# Altium footprint library 排针-排母.PcbLib: 177 footprints (part 7 of 12)
Each footprint in its own frame and in the unit in brackets; x right, y up, seen from the top. Pads: shape width x height; smd on the part's side, far side on the other; paste and mask are expansions set on the pad; w line width, h text height; cw(c..) or ccw(c..) is an arc to the next point about the centre after c.
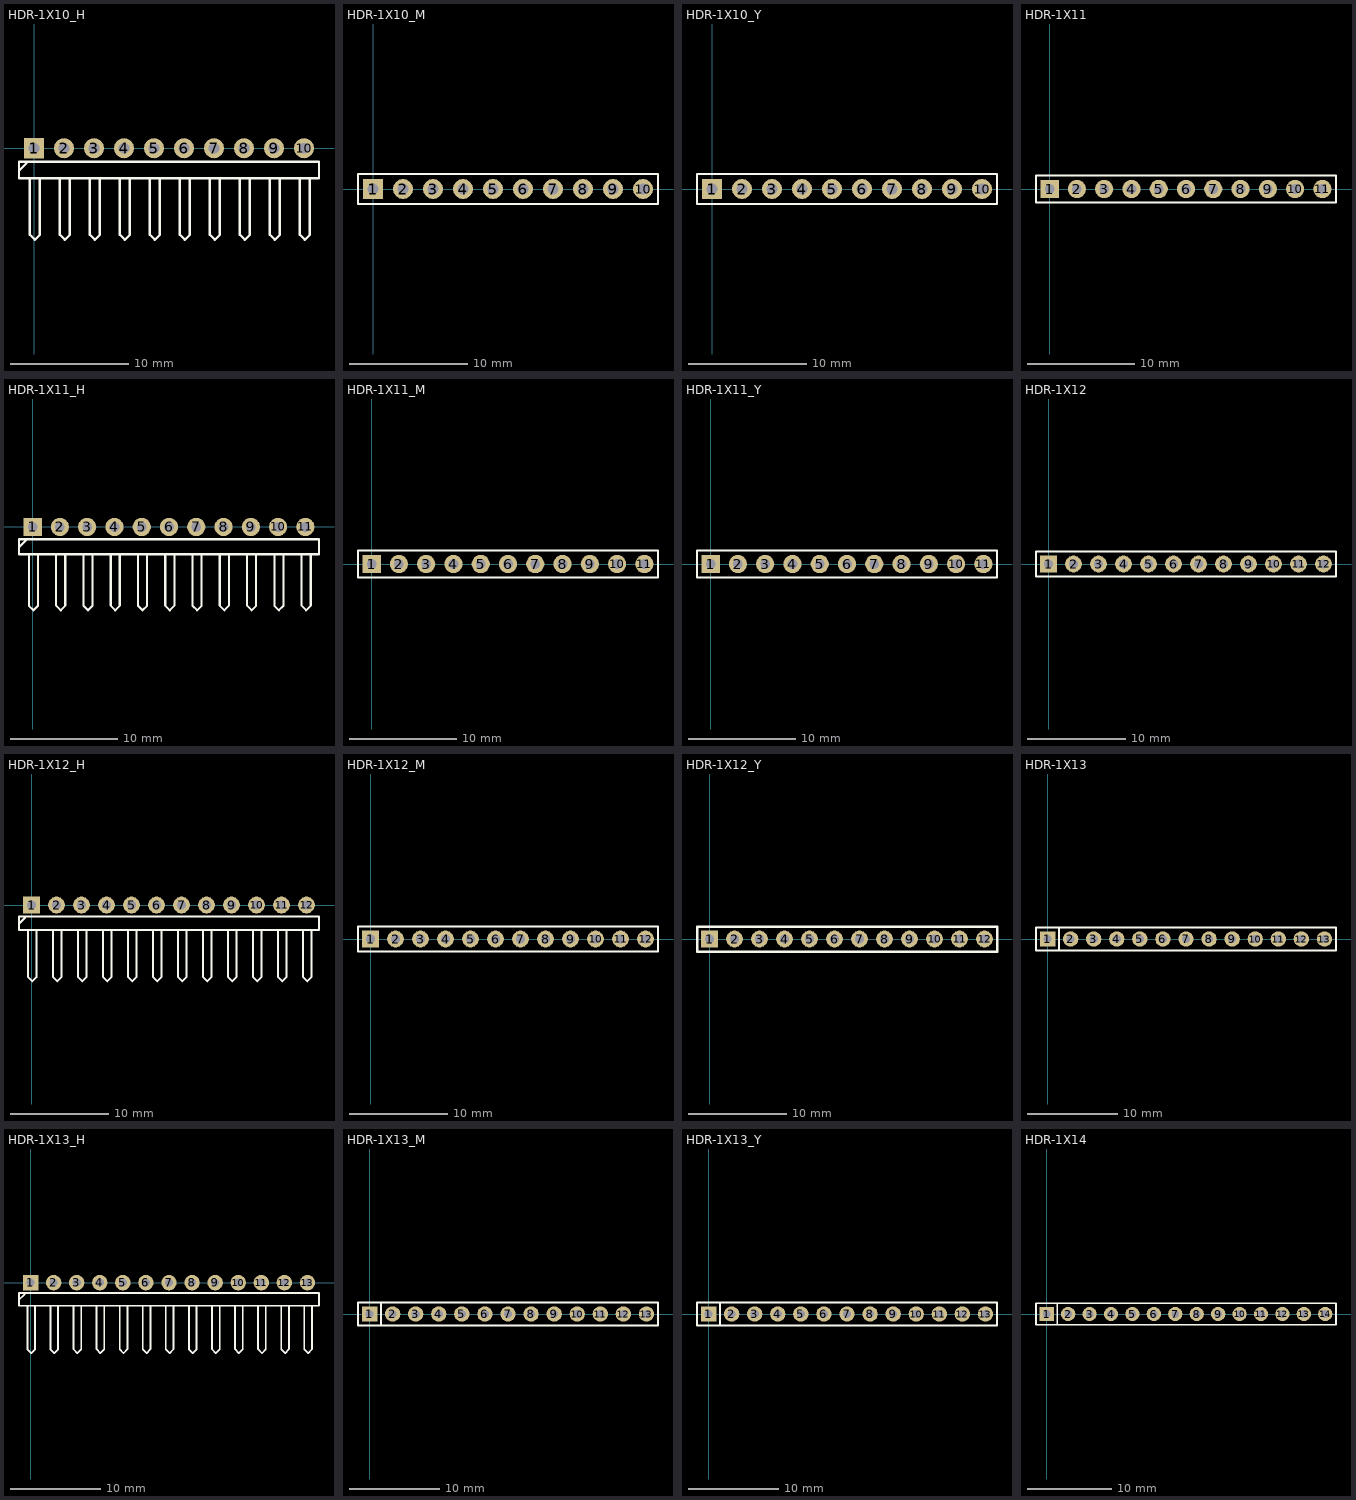
[diagram p6: the footprints below, top view; thin cyan lines are the x and y axes]

## HDR-1X10_H [mm] "弯脚排针，10脚"
pads (10):
  rect 1.7x1.7 hole 0.9: 1(0,0)
  round 1.7 hole 0.9: 2(2.54,0) 3(5.08,0) 4(7.62,0) 5(10.16,0) 6(12.7,0) 7(15.24,0) 8(17.78,0) 9(20.32,0) 10(22.86,0)
Top Overlay:
  lines w0.2: -1.27,-1.905 -0.635,-1.27 ; -0.348,-2.54 -0.348,-7.332 0.075,-7.755 0.499,-7.332 0.508,-7.323 ; 0.499,-7.323 0.499,-2.54 ; 2.192,-2.54 2.192,-7.332 2.615,-7.755 3.039,-7.332 ; 3.039,-7.323 3.039,-2.54 ; 4.732,-2.54 4.732,-7.332 5.155,-7.755 5.579,-7.332 ; 5.579,-7.323 5.579,-2.54 ; 7.272,-2.54 7.272,-7.332 7.695,-7.755 8.119,-7.332 ; 8.119,-7.323 8.119,-2.54 ; 9.812,-2.54 9.812,-7.332 10.235,-7.755 10.659,-7.332 ; 10.659,-7.323 10.659,-2.54 ; 12.352,-2.54 12.352,-7.332 12.775,-7.755 13.199,-7.332 ; 13.199,-7.323 13.199,-2.54 ; 14.892,-2.54 14.892,-7.332 15.315,-7.755 15.739,-7.332 ; 15.739,-7.323 15.739,-2.54 ; 17.432,-2.54 17.432,-7.332 17.855,-7.755 18.279,-7.332 ; 18.279,-7.323 18.279,-2.54 ; 19.972,-2.54 19.972,-7.332 20.395,-7.755 20.819,-7.332 ; 20.819,-7.323 20.819,-2.54 ; 22.512,-2.54 22.512,-7.332 22.935,-7.755 23.359,-7.332 ; 23.359,-7.323 23.359,-2.54 ; -1.27,-2.54 24.13,-2.54 24.13,-1.143 0.508,-1.143 -1.27,-1.143 -1.27,-2.54
3D body: height 4.85, standoff -3, extent 21.59,-7.77 24.13,1.27
3D body: height 4.85, standoff -3, extent 19.05,-7.77 21.59,1.27
3D body: height 4.85, standoff -3, extent 16.51,-7.77 19.05,1.27
3D body: height 4.85, standoff -3, extent 13.97,-7.77 16.51,1.27
3D body: height 4.85, standoff -3, extent 11.43,-7.77 13.97,1.27
3D body: height 4.85, standoff -3, extent 8.89,-7.77 11.43,1.27
3D body: height 4.85, standoff -3, extent 6.35,-7.77 8.89,1.27
3D body: height 4.85, standoff -3, extent 3.81,-7.77 6.35,1.27
3D body: height 4.85, standoff -3, extent 1.27,-7.77 3.81,1.27
3D body: height 4.85, standoff -3, extent -1.27,-7.77 1.27,1.27

## HDR-1X10_M [mm] "排母，10脚"
pads (10):
  rect 1.7x1.7 hole 0.9: 1(0,0)
  round 1.7 hole 0.9: 2(2.54,0) 3(5.08,0) 4(7.62,0) 5(10.16,0) 6(12.7,0) 7(15.24,0) 8(17.78,0) 9(20.32,0) 10(22.86,0)
Top Overlay:
  lines w0.2: -1.27,-1.27 -1.27,1.27 24.13,1.27 24.13,-1.27 -1.27,-1.27
3D body: height 8.5, standoff -3, extent 21.59,-1.27 24.13,1.27
3D body: height 8.5, standoff -3, extent -1.27,-1.27 1.27,1.27
3D body: height 8.5, standoff -3, extent 1.27,-1.27 3.81,1.27
3D body: height 8.5, standoff -3, extent 3.81,-1.27 6.35,1.27
3D body: height 8.5, standoff -3, extent 6.35,-1.27 8.89,1.27
3D body: height 8.5, standoff -3, extent 8.89,-1.27 11.43,1.27
3D body: height 8.5, standoff -3, extent 11.43,-1.27 13.97,1.27
3D body: height 8.5, standoff -3, extent 13.97,-1.27 16.51,1.27
3D body: height 8.5, standoff -3, extent 16.51,-1.27 19.05,1.27
3D body: height 8.5, standoff -3, extent 19.05,-1.27 21.59,1.27

## HDR-1X10_Y [mm] "圆孔排母，10脚"
pads (10):
  rect 1.7x1.7 hole 0.9: 1(0,0)
  round 1.7 hole 0.9: 2(2.54,0) 3(5.08,0) 4(7.62,0) 5(10.16,0) 6(12.7,0) 7(15.24,0) 8(17.78,0) 9(20.32,0) 10(22.86,0)
Top Overlay:
  lines w0.2: -1.27,-1.27 -1.27,1.27 24.13,1.27 24.13,-1.27 -1.27,-1.27
3D body: height 4.31, standoff -3, extent 21.59,-1.27 24.13,1.27
3D body: height 4.31, standoff -3, extent 19.05,-1.27 21.59,1.27
3D body: height 4.31, standoff -3, extent 16.51,-1.27 19.05,1.27
3D body: height 4.31, standoff -3, extent 13.97,-1.27 16.51,1.27
3D body: height 4.31, standoff -3, extent 11.43,-1.27 13.97,1.27
3D body: height 4.31, standoff -3, extent 8.89,-1.27 11.43,1.27
3D body: height 4.31, standoff -3, extent 6.35,-1.27 8.89,1.27
3D body: height 4.31, standoff -3, extent 3.81,-1.27 6.35,1.27
3D body: height 4.31, standoff -3, extent 1.27,-1.27 3.81,1.27
3D body: height 4.31, standoff -3, extent -1.27,-1.27 1.27,1.27

## HDR-1X11 [mm] "排针"
pads (11):
  rect 1.7x1.7 hole 0.9: 1(0,0)
  round 1.7 hole 0.9: 2(2.54,0) 3(5.08,0) 4(7.62,0) 5(10.16,0) 6(12.7,0) 7(15.24,0) 8(17.78,0) 9(20.32,0) 10(22.86,0) 11(25.4,0)
Top Overlay:
  lines w0.2: -1.27,-1.27 -1.27,1.27 26.67,1.27 26.67,-1.27 -1.27,-1.27
3D body: height 8.5, standoff -3, extent 24.13,-1.27 26.67,1.27
3D body: height 8.5, standoff -3, extent 21.59,-1.27 24.13,1.27
3D body: height 8.5, standoff -3, extent 16.51,-1.27 19.05,1.27
3D body: height 8.5, standoff -3, extent 19.05,-1.27 21.59,1.27
3D body: height 8.5, standoff -3, extent 11.43,-1.27 13.97,1.27
3D body: height 8.5, standoff -3, extent 13.97,-1.27 16.51,1.27
3D body: height 8.5, standoff -3, extent 8.89,-1.27 11.43,1.27
3D body: height 8.5, standoff -3, extent 3.81,-1.27 6.35,1.27
3D body: height 8.5, standoff -3, extent 6.35,-1.27 8.89,1.27
3D body: height 8.5, standoff -3, extent -1.27,-1.27 1.27,1.27
3D body: height 8.5, standoff -3, extent 1.27,-1.27 3.81,1.27

## HDR-1X11_H [mm] "弯脚排针，11脚"
pads (11):
  rect 1.7x1.7 hole 0.9: 1(0,0)
  round 1.7 hole 0.9: 2(2.54,0) 3(5.08,0) 4(7.62,0) 5(10.16,0) 6(12.7,0) 7(15.24,0) 8(17.78,0) 9(20.32,0) 10(22.86,0) 11(25.4,0)
Top Overlay:
  lines w0.2: -1.27,-1.905 -0.635,-1.27 ; -0.348,-2.54 -0.348,-7.332 0.075,-7.755 0.499,-7.332 0.508,-7.323 ; 0.499,-7.323 0.499,-2.54 ; 2.192,-2.54 2.192,-7.332 2.615,-7.755 3.039,-7.332 ; 3.039,-7.323 3.039,-2.54 ; 4.732,-2.54 4.732,-7.332 5.155,-7.755 5.579,-7.332 ; 5.579,-7.323 5.579,-2.54 ; 7.272,-2.54 7.272,-7.332 7.695,-7.755 8.119,-7.332 ; 8.119,-7.323 8.119,-2.54 ; 9.812,-2.54 9.812,-7.332 10.235,-7.755 10.659,-7.332 ; 10.659,-7.323 10.659,-2.54 ; 12.352,-2.54 12.352,-7.332 12.775,-7.755 13.199,-7.332 ; 13.199,-7.323 13.199,-2.54 ; 14.892,-2.54 14.892,-7.332 15.315,-7.755 15.739,-7.332 ; 15.739,-7.323 15.739,-2.54 ; 17.432,-2.54 17.432,-7.332 17.855,-7.755 18.279,-7.332 ; 18.279,-7.323 18.279,-2.54 ; 19.972,-2.54 19.972,-7.332 20.395,-7.755 20.819,-7.332 ; 20.819,-7.323 20.819,-2.54 ; 22.512,-2.54 22.512,-7.332 22.935,-7.755 23.359,-7.332 ; 23.359,-7.323 23.359,-2.54 ; 25.052,-2.54 25.052,-7.332 25.475,-7.755 25.899,-7.332 ; 25.899,-7.323 25.899,-2.54 ; -1.27,-2.54 26.67,-2.54 26.67,-1.143 0.508,-1.143 -1.27,-1.143 -1.27,-2.54
3D body: height 4.85, standoff -3, extent 24.13,-7.77 26.67,1.27
3D body: height 4.85, standoff -3, extent 21.59,-7.77 24.13,1.27
3D body: height 4.85, standoff -3, extent 19.05,-7.77 21.59,1.27
3D body: height 4.85, standoff -3, extent 16.51,-7.77 19.05,1.27
3D body: height 4.85, standoff -3, extent 13.97,-7.77 16.51,1.27
3D body: height 4.85, standoff -3, extent 11.43,-7.77 13.97,1.27
3D body: height 4.85, standoff -3, extent 8.89,-7.77 11.43,1.27
3D body: height 4.85, standoff -3, extent 6.35,-7.77 8.89,1.27
3D body: height 4.85, standoff -3, extent 3.81,-7.77 6.35,1.27
3D body: height 4.85, standoff -3, extent 1.27,-7.77 3.81,1.27
3D body: height 4.85, standoff -3, extent -1.27,-7.77 1.27,1.27

## HDR-1X11_M [mm] "排母，11脚"
pads (11):
  rect 1.7x1.7 hole 0.9: 1(0,0)
  round 1.7 hole 0.9: 2(2.54,0) 3(5.08,0) 4(7.62,0) 5(10.16,0) 6(12.7,0) 7(15.24,0) 8(17.78,0) 9(20.32,0) 10(22.86,0) 11(25.4,0)
Top Overlay:
  lines w0.2: -1.27,-1.27 -1.27,1.27 26.67,1.27 26.67,-1.27 -1.27,-1.27
3D body: height 8.5, standoff -3, extent 19.05,-1.27 21.59,1.27
3D body: height 8.5, standoff -3, extent 16.51,-1.27 19.05,1.27
3D body: height 8.5, standoff -3, extent 13.97,-1.27 16.51,1.27
3D body: height 8.5, standoff -3, extent 11.43,-1.27 13.97,1.27
3D body: height 8.5, standoff -3, extent 8.89,-1.27 11.43,1.27
3D body: height 8.5, standoff -3, extent 6.35,-1.27 8.89,1.27
3D body: height 8.5, standoff -3, extent 3.81,-1.27 6.35,1.27
3D body: height 8.5, standoff -3, extent 1.27,-1.27 3.81,1.27
3D body: height 8.5, standoff -3, extent -1.27,-1.27 1.27,1.27
3D body: height 8.5, standoff -3, extent 21.59,-1.27 24.13,1.27
3D body: height 8.5, standoff -3, extent 24.13,-1.27 26.67,1.27

## HDR-1X11_Y [mm] "圆孔排母，11脚"
pads (11):
  rect 1.7x1.7 hole 0.9: 1(0,0)
  round 1.7 hole 0.9: 2(2.54,0) 3(5.08,0) 4(7.62,0) 5(10.16,0) 6(12.7,0) 7(15.24,0) 8(17.78,0) 9(20.32,0) 10(22.86,0) 11(25.4,0)
Top Overlay:
  lines w0.2: -1.27,-1.27 26.67,-1.27 26.67,1.27 -1.27,1.27 -1.27,-1.27
3D body: height 4.31, standoff -3, extent -1.27,-1.27 1.27,1.27
3D body: height 4.31, standoff -3, extent 1.27,-1.27 3.81,1.27
3D body: height 4.31, standoff -3, extent 3.81,-1.27 6.35,1.27
3D body: height 4.31, standoff -3, extent 6.35,-1.27 8.89,1.27
3D body: height 4.31, standoff -3, extent 8.89,-1.27 11.43,1.27
3D body: height 4.31, standoff -3, extent 11.43,-1.27 13.97,1.27
3D body: height 4.31, standoff -3, extent 13.97,-1.27 16.51,1.27
3D body: height 4.31, standoff -3, extent 16.51,-1.27 19.05,1.27
3D body: height 4.31, standoff -3, extent 19.05,-1.27 21.59,1.27
3D body: height 4.31, standoff -3, extent 21.59,-1.27 24.13,1.27
3D body: height 4.31, standoff -3, extent 24.13,-1.27 26.67,1.27

## HDR-1X12 [mm] "排针，13脚"
pads (12):
  rect 1.7x1.7 hole 0.9: 1(0,0)
  round 1.7 hole 0.9: 2(2.54,0) 3(5.08,0) 4(7.62,0) 5(10.16,0) 6(12.7,0) 7(15.24,0) 8(17.78,0) 9(20.32,0) 10(22.86,0) 11(25.4,0) 12(27.94,0)
Top Overlay:
  lines w0.2: -1.27,-1.27 -1.27,1.27 29.21,1.27 29.21,-1.27 -1.27,-1.27
3D body: height 8.5, standoff -3, extent 24.13,-1.27 26.67,1.27
3D body: height 8.5, standoff -3, extent 26.67,-1.27 29.21,1.27
3D body: height 8.5, standoff -3, extent 21.59,-1.27 24.13,1.27
3D body: height 8.5, standoff -3, extent 16.51,-1.27 19.05,1.27
3D body: height 8.5, standoff -3, extent 19.05,-1.27 21.59,1.27
3D body: height 8.5, standoff -3, extent 11.43,-1.27 13.97,1.27
3D body: height 8.5, standoff -3, extent 13.97,-1.27 16.51,1.27
3D body: height 8.5, standoff -3, extent 8.89,-1.27 11.43,1.27
3D body: height 8.5, standoff -3, extent 3.81,-1.27 6.35,1.27
3D body: height 8.5, standoff -3, extent 6.35,-1.27 8.89,1.27
3D body: height 8.5, standoff -3, extent -1.27,-1.27 1.27,1.27
3D body: height 8.5, standoff -3, extent 1.27,-1.27 3.81,1.27

## HDR-1X12_H [mm] "弯脚排针，12脚"
pads (12):
  rect 1.7x1.7 hole 0.9: 1(0,0)
  round 1.7 hole 0.9: 2(2.54,0) 3(5.08,0) 4(7.62,0) 5(10.16,0) 6(12.7,0) 7(15.24,0) 8(17.78,0) 9(20.32,0) 10(22.86,0) 11(25.4,0) 12(27.94,0)
Top Overlay:
  lines w0.2: -1.27,-1.905 -0.635,-1.27 ; -0.348,-2.54 -0.348,-7.332 0.075,-7.755 0.499,-7.332 0.508,-7.323 ; 0.499,-7.323 0.499,-2.54 ; 2.192,-2.54 2.192,-7.332 2.615,-7.755 3.039,-7.332 ; 3.039,-7.323 3.039,-2.54 ; 4.732,-2.54 4.732,-7.332 5.155,-7.755 5.579,-7.332 ; 5.579,-7.323 5.579,-2.54 ; 7.272,-2.54 7.272,-7.332 7.695,-7.755 8.119,-7.332 ; 8.119,-7.323 8.119,-2.54 ; 9.812,-2.54 9.812,-7.332 10.235,-7.755 10.659,-7.332 ; 10.659,-7.323 10.659,-2.54 ; 12.352,-2.54 12.352,-7.332 12.775,-7.755 13.199,-7.332 ; 13.199,-7.323 13.199,-2.54 ; 14.892,-2.54 14.892,-7.332 15.315,-7.755 15.739,-7.332 ; 15.739,-7.323 15.739,-2.54 ; 17.432,-2.54 17.432,-7.332 17.855,-7.755 18.279,-7.332 ; 18.279,-7.323 18.279,-2.54 ; 19.972,-2.54 19.972,-7.332 20.395,-7.755 20.819,-7.332 ; 20.819,-7.323 20.819,-2.54 ; 22.512,-2.54 22.512,-7.332 22.935,-7.755 23.359,-7.332 ; 23.359,-7.323 23.359,-2.54 ; 25.052,-2.54 25.052,-7.332 25.475,-7.755 25.899,-7.332 ; 25.899,-7.323 25.899,-2.54 ; 27.592,-2.54 27.592,-7.332 28.015,-7.755 28.439,-7.332 ; 28.439,-7.323 28.439,-2.54 ; -1.27,-2.54 29.21,-2.54 29.21,-1.143 0.508,-1.143 -1.27,-1.143 -1.27,-2.54
3D body: height 4.85, standoff -3, extent -1.27,-7.77 1.27,1.27
3D body: height 4.85, standoff -3, extent 1.27,-7.77 3.81,1.27
3D body: height 4.85, standoff -3, extent 3.81,-7.77 6.35,1.27
3D body: height 4.85, standoff -3, extent 6.35,-7.77 8.89,1.27
3D body: height 4.85, standoff -3, extent 8.89,-7.77 11.43,1.27
3D body: height 4.85, standoff -3, extent 11.43,-7.77 13.97,1.27
3D body: height 4.85, standoff -3, extent 13.97,-7.77 16.51,1.27
3D body: height 4.85, standoff -3, extent 16.51,-7.77 19.05,1.27
3D body: height 4.85, standoff -3, extent 19.05,-7.77 21.59,1.27
3D body: height 4.85, standoff -3, extent 21.59,-7.77 24.13,1.27
3D body: height 4.85, standoff -3, extent 24.13,-7.77 26.67,1.27
3D body: height 4.85, standoff -3, extent 26.67,-7.77 29.21,1.27

## HDR-1X12_M [mm] "排母，12脚"
pads (12):
  rect 1.7x1.7 hole 0.9: 1(0,0)
  round 1.7 hole 0.9: 2(2.54,0) 3(5.08,0) 4(7.62,0) 5(10.16,0) 6(12.7,0) 7(15.24,0) 8(17.78,0) 9(20.32,0) 10(22.86,0) 11(25.4,0) 12(27.94,0)
Top Overlay:
  lines w0.2: -1.27,-1.27 29.21,-1.27 29.21,1.27 -1.27,1.27 -1.27,-1.27
3D body: height 8.5, standoff -3, extent 19.05,-1.27 21.59,1.27
3D body: height 8.5, standoff -3, extent 16.51,-1.27 19.05,1.27
3D body: height 8.5, standoff -3, extent 13.97,-1.27 16.51,1.27
3D body: height 8.5, standoff -3, extent 11.43,-1.27 13.97,1.27
3D body: height 8.5, standoff -3, extent 8.89,-1.27 11.43,1.27
3D body: height 8.5, standoff -3, extent 6.35,-1.27 8.89,1.27
3D body: height 8.5, standoff -3, extent 3.81,-1.27 6.35,1.27
3D body: height 8.5, standoff -3, extent 1.27,-1.27 3.81,1.27
3D body: height 8.5, standoff -3, extent -1.27,-1.27 1.27,1.27
3D body: height 8.5, standoff -3, extent 21.59,-1.27 24.13,1.27
3D body: height 8.5, standoff -3, extent 24.13,-1.27 26.67,1.27
3D body: height 8.5, standoff -3, extent 26.67,-1.27 29.21,1.27

## HDR-1X12_Y [mm] "圆孔排母，12脚"
pads (12):
  rect 1.7x1.7 hole 0.9: 1(0,0)
  round 1.7 hole 0.9: 2(2.54,0) 3(5.08,0) 4(7.62,0) 5(10.16,0) 6(12.7,0) 7(15.24,0) 8(17.78,0) 9(20.32,0) 10(22.86,0) 11(25.4,0) 12(27.94,0)
Top Overlay:
  lines w0.254: -1.27,-1.27 29.21,-1.27 29.21,1.27 -1.27,1.27 -1.27,-1.27
3D body: height 4.31, standoff -3, extent 26.67,-1.27 29.21,1.27
3D body: height 4.31, standoff -3, extent 24.13,-1.27 26.67,1.27
3D body: height 4.31, standoff -3, extent 21.59,-1.27 24.13,1.27
3D body: height 4.31, standoff -3, extent 19.05,-1.27 21.59,1.27
3D body: height 4.31, standoff -3, extent 16.51,-1.27 19.05,1.27
3D body: height 4.31, standoff -3, extent 13.97,-1.27 16.51,1.27
3D body: height 4.31, standoff -3, extent 11.43,-1.27 13.97,1.27
3D body: height 4.31, standoff -3, extent 8.89,-1.27 11.43,1.27
3D body: height 4.31, standoff -3, extent 6.35,-1.27 8.89,1.27
3D body: height 4.31, standoff -3, extent 3.81,-1.27 6.35,1.27
3D body: height 4.31, standoff -3, extent 1.27,-1.27 3.81,1.27
3D body: height 4.31, standoff -3, extent -1.27,-1.27 1.27,1.27

## HDR-1X13 [mm] "排针，13脚"
pads (13):
  rect 1.7x1.7 hole 0.9: 1(0,0)
  round 1.7 hole 0.9: 2(2.54,0) 3(5.08,0) 4(7.62,0) 5(10.16,0) 6(12.7,0) 7(15.24,0) 8(17.78,0) 9(20.32,0) 10(22.86,0) 11(25.4,0) 12(27.94,0) 13(30.48,0)
Top Overlay:
  lines w0.2: 1.25,-1.25 1.25,1.25 ; -1.27,-1.27 -1.27,1.27 0.635,1.27 31.75,1.27 31.75,-1.27 -1.27,-1.27
3D body: height 8.5, standoff -3, extent 29.21,-1.27 31.75,1.27
3D body: height 8.5, standoff -3, extent 24.13,-1.27 26.67,1.27
3D body: height 8.5, standoff -3, extent 26.67,-1.27 29.21,1.27
3D body: height 8.5, standoff -3, extent 21.59,-1.27 24.13,1.27
3D body: height 8.5, standoff -3, extent 16.51,-1.27 19.05,1.27
3D body: height 8.5, standoff -3, extent 19.05,-1.27 21.59,1.27
3D body: height 8.5, standoff -3, extent 11.43,-1.27 13.97,1.27
3D body: height 8.5, standoff -3, extent 13.97,-1.27 16.51,1.27
3D body: height 8.5, standoff -3, extent 8.89,-1.27 11.43,1.27
3D body: height 8.5, standoff -3, extent 3.81,-1.27 6.35,1.27
3D body: height 8.5, standoff -3, extent 6.35,-1.27 8.89,1.27
3D body: height 8.5, standoff -3, extent -1.27,-1.27 1.27,1.27
3D body: height 8.5, standoff -3, extent 1.27,-1.27 3.81,1.27

## HDR-1X13_H [mm] "弯脚排针，13脚"
pads (13):
  rect 1.7x1.7 hole 0.9: 1(0,0)
  round 1.7 hole 0.9: 2(2.54,0) 3(5.08,0) 4(7.62,0) 5(10.16,0) 6(12.7,0) 7(15.24,0) 8(17.78,0) 9(20.32,0) 10(22.86,0) 11(25.4,0) 12(27.94,0) 13(30.48,0)
Top Overlay:
  lines w0.2: -1.27,-1.905 -0.635,-1.27 ; -0.348,-2.54 -0.348,-7.332 0.075,-7.755 0.499,-7.332 0.508,-7.323 ; 0.499,-7.323 0.499,-2.54 ; 2.192,-2.54 2.192,-7.332 2.615,-7.755 3.039,-7.332 ; 3.039,-7.323 3.039,-2.54 ; 4.732,-2.54 4.732,-7.332 5.155,-7.755 5.579,-7.332 ; 5.579,-7.323 5.579,-2.54 ; 7.272,-2.54 7.272,-7.332 7.695,-7.755 8.119,-7.332 ; 8.119,-7.323 8.119,-2.54 ; 9.812,-2.54 9.812,-7.332 10.235,-7.755 10.659,-7.332 ; 10.659,-7.323 10.659,-2.54 ; 12.352,-2.54 12.352,-7.332 12.775,-7.755 13.199,-7.332 ; 13.199,-7.323 13.199,-2.54 ; 14.892,-2.54 14.892,-7.332 15.315,-7.755 15.739,-7.332 ; 15.739,-7.323 15.739,-2.54 ; 17.432,-2.54 17.432,-7.332 17.855,-7.755 18.279,-7.332 ; 18.279,-7.323 18.279,-2.54 ; 19.972,-2.54 19.972,-7.332 20.395,-7.755 20.819,-7.332 ; 20.819,-7.323 20.819,-2.54 ; 22.512,-2.54 22.512,-7.332 22.935,-7.755 23.359,-7.332 ; 23.359,-7.323 23.359,-2.54 ; 25.052,-2.54 25.052,-7.332 25.475,-7.755 25.899,-7.332 ; 25.899,-7.323 25.899,-2.54 ; 27.592,-2.54 27.592,-7.332 28.015,-7.755 28.439,-7.332 ; 28.439,-7.323 28.439,-2.54 ; 30.132,-2.54 30.132,-7.332 30.555,-7.755 30.979,-7.332 ; 30.979,-7.323 30.979,-2.54 ; -1.27,-2.54 31.75,-2.54 31.75,-1.143 0.508,-1.143 -1.27,-1.143 -1.27,-2.54
3D body: height 4.85, standoff -3, extent 29.21,-7.77 31.75,1.27
3D body: height 4.85, standoff -3, extent 26.67,-7.77 29.21,1.27
3D body: height 4.85, standoff -3, extent 24.13,-7.77 26.67,1.27
3D body: height 4.85, standoff -3, extent 21.59,-7.77 24.13,1.27
3D body: height 4.85, standoff -3, extent 19.05,-7.77 21.59,1.27
3D body: height 4.85, standoff -3, extent 16.51,-7.77 19.05,1.27
3D body: height 4.85, standoff -3, extent 13.97,-7.77 16.51,1.27
3D body: height 4.85, standoff -3, extent 11.43,-7.77 13.97,1.27
3D body: height 4.85, standoff -3, extent 8.89,-7.77 11.43,1.27
3D body: height 4.85, standoff -3, extent 6.35,-7.77 8.89,1.27
3D body: height 4.85, standoff -3, extent 3.81,-7.77 6.35,1.27
3D body: height 4.85, standoff -3, extent 1.27,-7.77 3.81,1.27
3D body: height 4.85, standoff -3, extent -1.27,-7.77 1.27,1.27

## HDR-1X13_M [mm] "排母，13脚"
pads (13):
  rect 1.7x1.7 hole 0.9: 1(0,0)
  round 1.7 hole 0.9: 2(2.54,0) 3(5.08,0) 4(7.62,0) 5(10.16,0) 6(12.7,0) 7(15.24,0) 8(17.78,0) 9(20.32,0) 10(22.86,0) 11(25.4,0) 12(27.94,0) 13(30.48,0)
Top Overlay:
  lines w0.2: 1.25,-1.25 1.25,1.25 ; -1.27,-1.27 31.75,-1.27 31.75,1.27 0.635,1.27 -1.27,1.27 -1.27,-1.27
3D body: height 8.5, standoff -3, extent 29.21,-1.27 31.75,1.27
3D body: height 8.5, standoff -3, extent 26.67,-1.27 29.21,1.27
3D body: height 8.5, standoff -3, extent 24.13,-1.27 26.67,1.27
3D body: height 8.5, standoff -3, extent 21.59,-1.27 24.13,1.27
3D body: height 8.5, standoff -3, extent -1.27,-1.27 1.27,1.27
3D body: height 8.5, standoff -3, extent 1.27,-1.27 3.81,1.27
3D body: height 8.5, standoff -3, extent 3.81,-1.27 6.35,1.27
3D body: height 8.5, standoff -3, extent 6.35,-1.27 8.89,1.27
3D body: height 8.5, standoff -3, extent 8.89,-1.27 11.43,1.27
3D body: height 8.5, standoff -3, extent 11.43,-1.27 13.97,1.27
3D body: height 8.5, standoff -3, extent 13.97,-1.27 16.51,1.27
3D body: height 8.5, standoff -3, extent 16.51,-1.27 19.05,1.27
3D body: height 8.5, standoff -3, extent 19.05,-1.27 21.59,1.27

## HDR-1X13_Y [mm] "圆孔排母，13脚"
pads (13):
  rect 1.7x1.7 hole 0.9: 1(0,0)
  round 1.7 hole 0.9: 2(2.54,0) 3(5.08,0) 4(7.62,0) 5(10.16,0) 6(12.7,0) 7(15.24,0) 8(17.78,0) 9(20.32,0) 10(22.86,0) 11(25.4,0) 12(27.94,0) 13(30.48,0)
Top Overlay:
  lines w0.2: 1.25,-1.25 1.25,1.25 ; -1.27,-1.27 -1.27,1.27 0.635,1.27 31.75,1.27 31.75,-1.27 -1.27,-1.27
3D body: height 4.31, standoff -3, extent -1.27,-1.27 1.27,1.27
3D body: height 4.31, standoff -3, extent 1.27,-1.27 3.81,1.27
3D body: height 4.31, standoff -3, extent 3.81,-1.27 6.35,1.27
3D body: height 4.31, standoff -3, extent 6.35,-1.27 8.89,1.27
3D body: height 4.31, standoff -3, extent 8.89,-1.27 11.43,1.27
3D body: height 4.31, standoff -3, extent 11.43,-1.27 13.97,1.27
3D body: height 4.31, standoff -3, extent 13.97,-1.27 16.51,1.27
3D body: height 4.31, standoff -3, extent 16.51,-1.27 19.05,1.27
3D body: height 4.31, standoff -3, extent 19.05,-1.27 21.59,1.27
3D body: height 4.31, standoff -3, extent 21.59,-1.27 24.13,1.27
3D body: height 4.31, standoff -3, extent 24.13,-1.27 26.67,1.27
3D body: height 4.31, standoff -3, extent 26.67,-1.27 29.21,1.27
3D body: height 4.31, standoff -3, extent 29.21,-1.27 31.75,1.27

## HDR-1X14 [mm] "排针，14脚"
pads (14):
  rect 1.7x1.7 hole 0.9: 1(0,0)
  round 1.7 hole 0.9: 2(2.54,0) 3(5.08,0) 4(7.62,0) 5(10.16,0) 6(12.7,0) 7(15.24,0) 8(17.78,0) 9(20.32,0) 10(22.86,0) 11(25.4,0) 12(27.94,0) 13(30.48,0) 14(33.02,0)
Top Overlay:
  lines w0.2: 1.25,-1.25 1.25,1.25 ; -1.27,-1.27 -1.27,1.27 0.635,1.27 34.29,1.27 34.29,-1.27 -1.27,-1.27
3D body: height 8.5, standoff -3, extent 1.27,-1.27 3.81,1.27
3D body: height 8.5, standoff -3, extent -1.27,-1.27 1.27,1.27
3D body: height 8.5, standoff -3, extent 6.35,-1.27 8.89,1.27
3D body: height 8.5, standoff -3, extent 3.81,-1.27 6.35,1.27
3D body: height 8.5, standoff -3, extent 8.89,-1.27 11.43,1.27
3D body: height 8.5, standoff -3, extent 13.97,-1.27 16.51,1.27
3D body: height 8.5, standoff -3, extent 11.43,-1.27 13.97,1.27
3D body: height 8.5, standoff -3, extent 19.05,-1.27 21.59,1.27
3D body: height 8.5, standoff -3, extent 16.51,-1.27 19.05,1.27
3D body: height 8.5, standoff -3, extent 21.59,-1.27 24.13,1.27
3D body: height 8.5, standoff -3, extent 26.67,-1.27 29.21,1.27
3D body: height 8.5, standoff -3, extent 24.13,-1.27 26.67,1.27
3D body: height 8.5, standoff -3, extent 31.75,-1.27 34.29,1.27
3D body: height 8.5, standoff -3, extent 29.21,-1.27 31.75,1.27